# Altium schematic symbol library Logturtle_Power_Transmitter.SchLib: 24 symbols
Pins are listed as number, name and electrical type; pins without a type are passive.

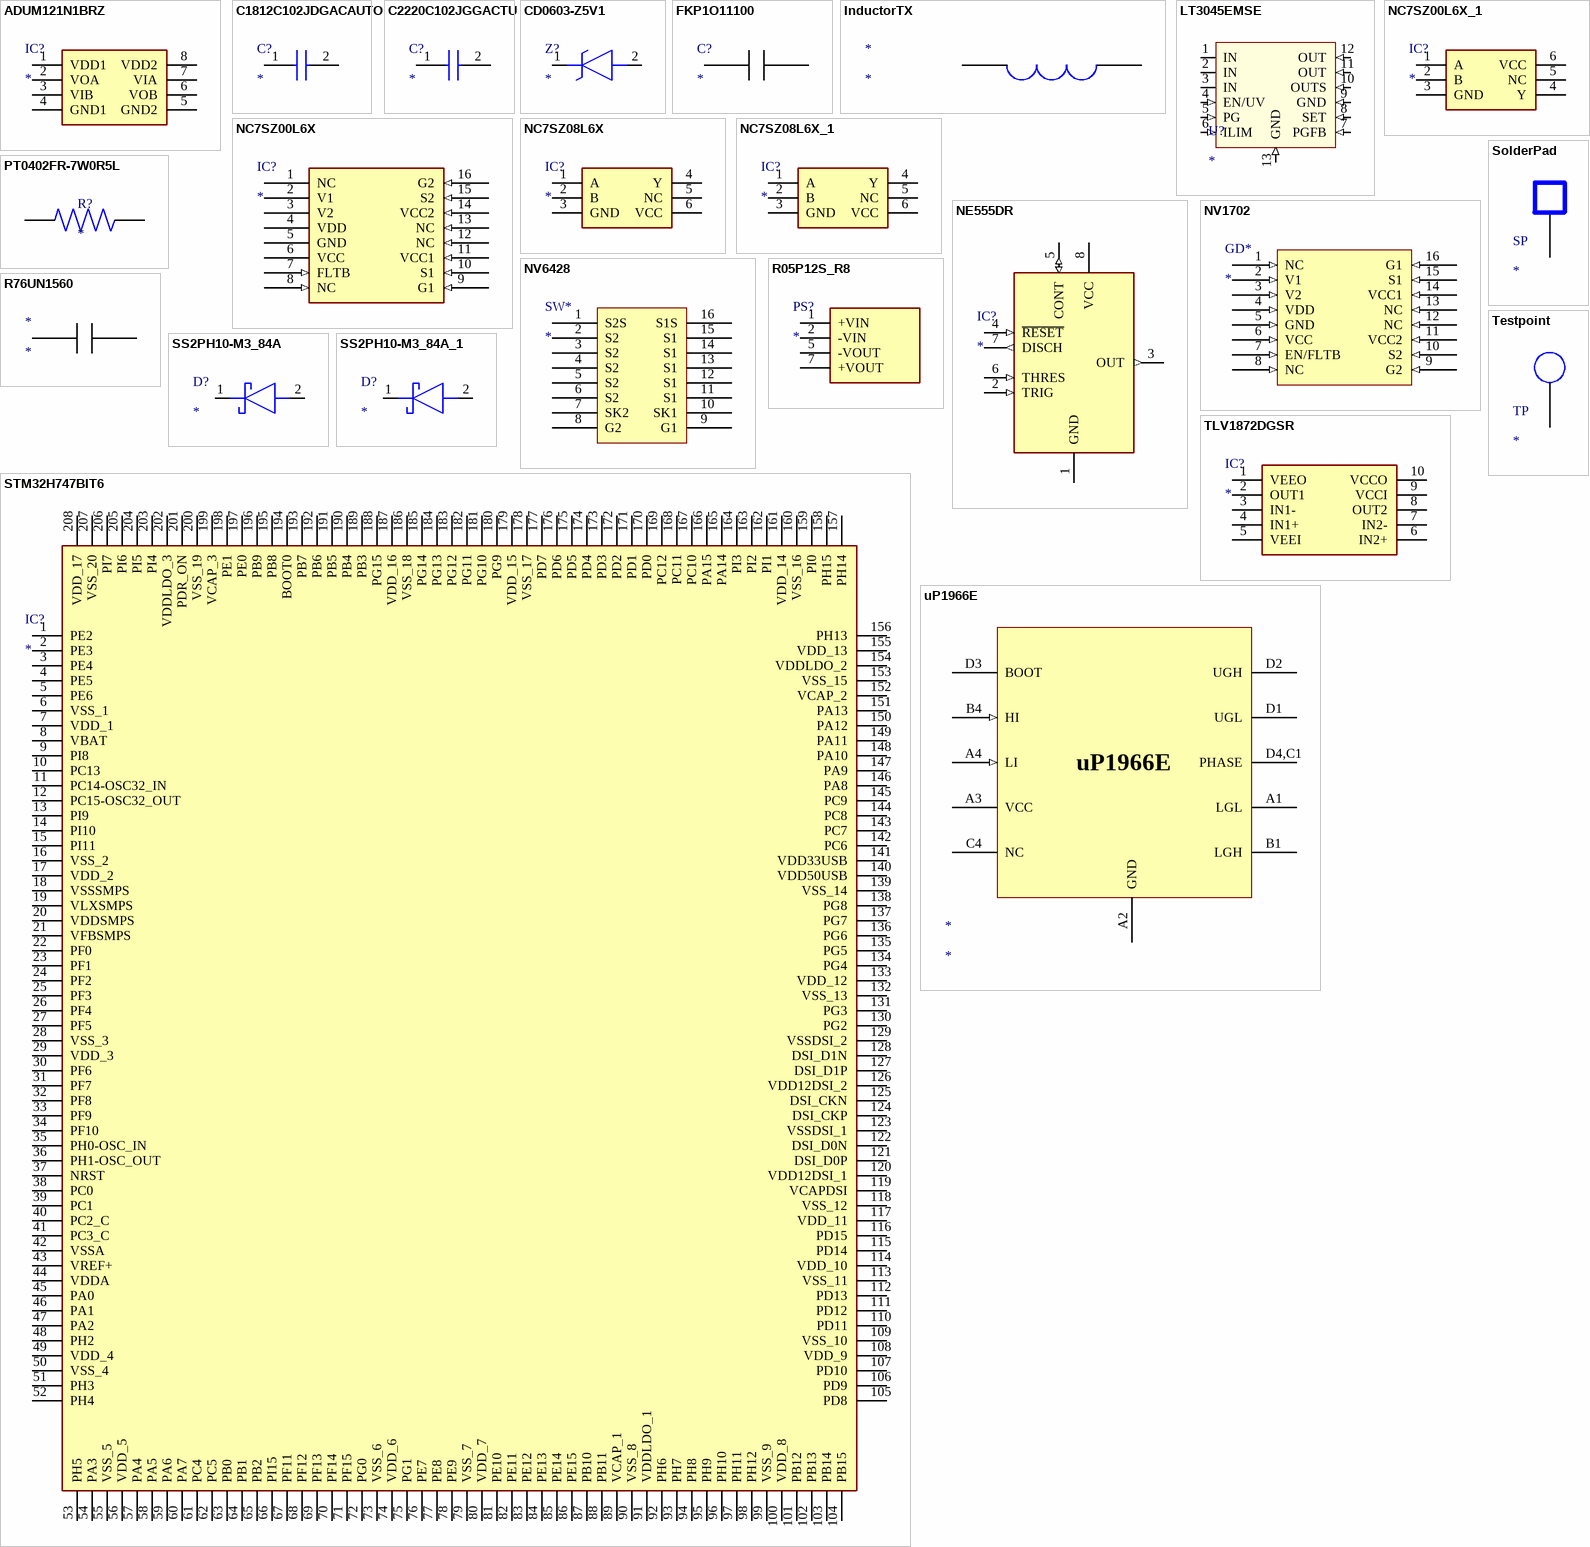
[diagram p0: symbols ADUM121N1BRZ to uP1966E]

## ADUM121N1BRZ
designator IC?
Integrated Circuit; Manufacturer_Name: Analog Devices; Manufacturer_Part_Number: ADUM121N1BRZ; Datasheet Link: http://www.analog.com/media/en/technical-documentation/data-sheets/ADuM120N_121N.pdf; Height: 1.75mm; Mouser Part Number: 584-ADUM121N1BRZ; Mouser Price/Stock: https://www.mouser.co.uk/ProductDetail/Analog-Devices/ADUM121N1BRZ?qs=lrf6x%2Foh5fBVNc%2Fo3CLfcQ%3D%3D; Arrow Part Number: ADUM121N1BRZ; Arrow Price/Stock: https://www.arrow.com/en/products/adum121n1brz/analog-devices?utm_currency=USD&region=nac
footprint SOIC127P600X175-8N
pins: 1 VDD1, 2 VOA, 3 VIB, 4 GND1, 5 GND2, 6 VOB, 7 VIA, 8 VDD2

## C1812C102JDGACAUTO
designator C?
Capacitor; Manufacturer_Name: YAGEO; Manufacturer_Part_Number: C1812C102JDGACAUTO; Datasheet Link: https://content.kemet.com/datasheets/KEM_C1080_C0G_HV_AUTO_SMD.pdf; Height: 1.55mm
footprint C1812
pins: 1, 2

## C2220C102JGGACTU
designator C?
Capacitor; Manufacturer_Name: KEMET; Manufacturer_Part_Number: C2220C102JGGACTU; Datasheet Link: https://content.kemet.com/datasheets/KEM_C1009_C0G_HV_SMD.pdf; Height: 2.2mm; Mouser Part Number: 80-C2220C102JGG; Mouser Price/Stock: https://www.mouser.co.uk/ProductDetail/KEMET/C2220C102JGGACTU?qs=w3%252Bcv6Flocq2o2tO%2FfUhTA%3D%3D; Arrow Part Number: C2220C102JGGACTU; Arrow Price/Stock: https://www.arrow.com/en/products/c2220c102jggactu/kemet-corporation?region=nac
footprint C2220
pins: 1, 2

## CD0603-Z5V1
designator Z?
Zener Diode; Manufacturer_Name: Bourns; Manufacturer_Part_Number: CD0603-Z5V1; Datasheet Link: https://media.digikey.com/pdf/Data%20Sheets/Bourns%20PDFs/D0603_1005-Z.pdf; Height: 0.85mm; Mouser Part Number: 652-CD0603-Z5V1; Mouser Price/Stock: https://www.mouser.com/Search/Refine.aspx?Keyword=652-CD0603-Z5V1
footprint DIOC1709X85N
pins: 1 K, 2 A

## FKP1O11100
designator C?
pins: 15, 16

## InductorTX
designator *
footprint InductorTerminals
pins: 12, + 13

## LT3045EMSE
designator U?
20V, 500mA, Ultralow Noise, Ultrahigh PSRR Linear Regulator  https://www.digikey.ie/en/products/detail/analog-devices-inc/LT3045EMSE-PBF/6234771
footprint TSOP65P490X110_HS-13N (TSOP, 12-Leads, Body 4.04x3.00mm, Pitch 0.65mm, Thermal Pad 2.95x1.76mm, IPC Medium Density)
pins: 1 IN, 2 IN, 3 IN, 4 EN/UV (in), 5 PG (in), 6 ILIM (in), 7 PGFB (in), 8 SET (in), 9 GND (in), 10 OUTS (in), 11 OUT (in), 12 OUT (in), 13 GND (in)

## NC7SZ00L6X
designator IC?
Integrated Circuit; Manufacturer_Name: onsemi; Manufacturer_Part_Number: NC7SZ00L6X; Datasheet Link: https://www.onsemi.com/pub/Collateral/NC7SZ00-D.PDF; Height: 0.55mm; Mouser Part Number: 512-NC7SZ00L6X; Mouser Price/Stock: https://www.mouser.co.uk/ProductDetail/ON-Semiconductor-Fairchild/NC7SZ00L6X/?qs=AFLC8Sm4xaWQG%252BOWUdD%2FRg%3D%3D; Arrow Part Number: NC7SZ00L6X; Arrow Price/Stock: https://www.arrow.com/en/products/nc7sz00l6x/on-semiconductor
footprint NC7SZ00L6X
footprint NC7SZ00L6X
pins: 1 NC, 2 V1, 3 V2, 4 VDD, 5 GND, 6 VCC, 7 FLTB (in), 8 NC (in), 9 G1 (in), 10 S1 (in), 11 VCC1 (in), 12 NC (in), 13 NC (in), 14 VCC2 (in), 15 S2 (in), 16 G2 (in)

## NC7SZ00L6X_1
designator IC?
Integrated Circuit; Manufacturer_Name: onsemi; Manufacturer_Part_Number: NC7SZ00L6X; Datasheet Link: https://www.onsemi.com/pub/Collateral/NC7SZ00-D.PDF; Height: 0.55mm; Mouser Part Number: 512-NC7SZ00L6X; Mouser Price/Stock: https://www.mouser.co.uk/ProductDetail/ON-Semiconductor-Fairchild/NC7SZ00L6X/?qs=AFLC8Sm4xaWQG%252BOWUdD%2FRg%3D%3D; Arrow Part Number: NC7SZ00L6X; Arrow Price/Stock: https://www.arrow.com/en/products/nc7sz00l6x/on-semiconductor
footprint NC7SZ00L6X
pins: 1 A, 2 B, 3 GND, 4 Y, 5 NC, 6 VCC

## NC7SZ08L6X
designator IC?
Integrated Circuit; Manufacturer_Name: onsemi; Manufacturer_Part_Number: NC7SZ08L6X; Datasheet Link: https://www.onsemi.com/pub/Collateral/NC7SZ08-D.PDF; Height: 0.55mm; Mouser Part Number: 512-NC7SZ08L6X; Mouser Price/Stock: https://www.mouser.co.uk/ProductDetail/onsemi-Fairchild/NC7SZ08L6X?qs=u2B728UsA6qfPyNlTO4c7w%3D%3D; Arrow Part Number: NC7SZ08L6X; Arrow Price/Stock: https://www.arrow.com/en/products/nc7sz08l6x/on-semiconductor
footprint NC7SZ08L6X
footprint NC7SZ08L6X
pins: 1 A, 2 B, 3 GND, 4 Y, 5 NC, 6 VCC

## NC7SZ08L6X_1
designator IC?
Integrated Circuit; Manufacturer_Name: onsemi; Manufacturer_Part_Number: NC7SZ08L6X; Datasheet Link: https://www.onsemi.com/pub/Collateral/NC7SZ08-D.PDF; Height: 0.55mm; Mouser Part Number: 512-NC7SZ08L6X; Mouser Price/Stock: https://www.mouser.co.uk/ProductDetail/onsemi-Fairchild/NC7SZ08L6X?qs=u2B728UsA6qfPyNlTO4c7w%3D%3D; Arrow Part Number: NC7SZ08L6X; Arrow Price/Stock: https://www.arrow.com/en/products/nc7sz08l6x/on-semiconductor
footprint NC7SZ08L6X
pins: 1 A, 2 B, 3 GND, 4 Y, 5 NC, 6 VCC

## NE555DR
designator IC?
Integrated Circuit; Manufacturer_Name: Texas Instruments; Manufacturer_Part_Number: NE555DR; Datasheet Link: http://www.ti.com/lit/ds/symlink/ne555.pdf; Height: 1.75mm; Mouser Part Number: 595-NE555DR; Mouser Price/Stock: https://www.mouser.com/Search/Refine.aspx?Keyword=595-NE555DR; RS Part Number: 1218414; RS Price/Stock: http://uk.rs-online.com/web/p/products/1218414
footprint SOIC127P600X175-8N
pins: 1 GND (power), 2 TRIG (in), 3 OUT (out), 4 ~{RESET} (in), 5 CONT (io), 6 THRES (in), 7 DISCH (out), 8 VCC (power)

## NV1702
designator GD*
Isolated gate driver for bidirectional switch / https://navitassemi.com/wp-content/plugins/gb-navitas-stock-checker/product_files/PDS-NV1702.pdf
pins: 1 NC (in), 2 V1 (in), 3 V2 (in), 4 VDD (in), 5 GND (in), 6 VCC (in), 7 EN/FLTB (in), 8 NC (in), 9 G2 (in), 10 S2 (in), 11 VCC2 (in), 12 NC (in), 13 NC (in), 14 VCC1 (in), 15 S1 (in), 16 G1 (in)

## NV6428
designator SW*
Navitas bidirection GaN switch / https://navitassemi.com/wp-content/plugins/gb-navitas-stock-checker/product_files/NV6428_70mO%20Max_Bi-Directional%20GaNFast_TOLT.pdf
footprint NV6428
pins: 1 S2S, 2 S2, 3 S2, 4 S2, 5 S2, 6 S2, 7 SK2 (hiz), 8 G2 (hiz), 9 G1 (hiz), 10 SK1 (hiz), 11 S1, 12 S1, 13 S1, 14 S1, 15 S1, 16 S1S

## PT0402FR-7W0R5L
designator R?
500 mOhms Â±1% 0.125W, 1/8W Chip Resistor 0402 (1005 Metric) Automotive AEC-Q200, Current Sense, Moisture Resistant Thick Film; MF: Yageo; MP: PT0402FR-7W0R5L; Price: None; Value: *; Check_prices: https://www.snapeda.com/parts/PT0402FR-7W0R5L/Yageo/view-part/1010867/?ref=eda; Package: 1005 Yageo; SnapEDA_Link: https://www.snapeda.com/parts/PT0402FR-7W0R5L/Yageo/view-part/1010867/?ref=snap; Availability: Bad
footprint RESC1005X40N
pins: 1, 2

## R05P12S_R8
designator PS?
Power Supply; Manufacturer_Name: RECOM Power; Manufacturer_Part_Number: R05P12S/R8; Datasheet Link: https://www.mouser.de/datasheet/2/468/RxxPxx_R-1710046.pdf; Height: 13mm; Mouser Part Number: 919-R05P12SR8; Mouser Price/Stock: https://www.mouser.co.uk/ProductDetail/RECOM-Power/R05P12S-R8?qs=%252BHKxvJ84kqo5EQ%2FKTjgTzw%3D%3D
footprint R05P12SR8
pins: 1 +VIN, 2 -VIN, 5 -VOUT, 7 +VOUT

## R76UN1560
designator *
footprint R76UN1560
pins: 15, 16

## SolderPad
designator SP
pins: ?1

## SS2PH10-M3_84A
designator D?
Schottky Diode; Manufacturer_Name: Vishay; Manufacturer_Part_Number: SS2PH10-M3/84A; Datasheet Link: https://www.vishay.com/docs/84682/ss2ph9.pdf; Mouser Part Number: 625-SS2PH10-M3; Mouser Price/Stock: https://www.mouser.co.uk/ProductDetail/Vishay-General-Semiconductor/SS2PH10-M3-84A?qs=2u8eEi%2F8yFWdOPY7KNSV1w%3D%3D; Arrow Part Number: SS2PH10-M3/84A; Arrow Price/Stock: https://www.arrow.com/en/products/ss2ph10-m384a/vishay?utm_currency=USD&region=nac
footprint DO-220AA
pins: 1 K, 2 A

## SS2PH10-M3_84A_1
designator D?
Schottky Diode; Manufacturer_Name: Vishay; Manufacturer_Part_Number: SS2PH10-M3/84A; Datasheet Link: https://www.vishay.com/docs/84682/ss2ph9.pdf; Mouser Part Number: 625-SS2PH10-M3; Mouser Price/Stock: https://www.mouser.co.uk/ProductDetail/Vishay-General-Semiconductor/SS2PH10-M3-84A?qs=2u8eEi%2F8yFWdOPY7KNSV1w%3D%3D; Arrow Part Number: SS2PH10-M3/84A; Arrow Price/Stock: https://www.arrow.com/en/products/ss2ph10-m384a/vishay?utm_currency=USD&region=nac
footprint DO-220AA
pins: 1 K, 2 A

## STM32H747BIT6
designator IC?
Integrated Circuit; Manufacturer_Name: STMicroelectronics; Manufacturer_Part_Number: STM32H747BIT6; Datasheet Link: https://www.st.com/resource/en/datasheet/stm32h747ag.pdf; Height: 1.6mm; Mouser Part Number: 511-STM32H747BIT6; Mouser Price/Stock: https://www.mouser.co.uk/ProductDetail/STMicroelectronics/STM32H747BIT6?qs=vLWxofP3U2wScK44YDio2w%3D%3D; Arrow Part Number: STM32H747BIT6; Arrow Price/Stock: https://www.arrow.com/en/products/stm32h747bit6/stmicroelectronics?utm_currency=USD&region=nac
footprint QFP50P3000X3000X160-208N
pins: 1 PE2, 2 PE3, 3 PE4, 4 PE5, 5 PE6, 6 VSS_1, 7 VDD_1, 8 VBAT, 9 PI8, 10 PC13, 11 PC14-OSC32_IN, 12 PC15-OSC32_OUT, 13 PI9, 14 PI10, 15 PI11, 16 VSS_2, 17 VDD_2, 18 VSSSMPS, 19 VLXSMPS, 20 VDDSMPS, 21 VFBSMPS, 22 PF0, 23 PF1, 24 PF2, 25 PF3, 26 PF4, 27 PF5, 28 VSS_3, 29 VDD_3, 30 PF6, 31 PF7, 32 PF8, 33 PF9, 34 PF10, 35 PH0-OSC_IN, 36 PH1-OSC_OUT, 37 NRST, 38 PC0, 39 PC1, 40 PC2_C, 41 PC3_C, 42 VSSA, 43 VREF+, 44 VDDA, 45 PA0, 46 PA1, 47 PA2, 48 PH2, 49 VDD_4, 50 VSS_4, 51 PH3, 52 PH4, 53 PH5, 54 PA3, 55 VSS_5, 56 VDD_5, 57 PA4, 58 PA5, 59 PA6, 60 PA7, 61 PC4, 62 PC5, 63 PB0, 64 PB1, 65 PB2, 66 PI15, 67 PF11, 68 PF12, 69 PF13, 70 PF14, 71 PF15, 72 PG0, 73 VSS_6, 74 VDD_6, 75 PG1, 76 PE7, 77 PE8, 78 PE9, 79 VSS_7, 80 VDD_7, 81 PE10, 82 PE11, 83 PE12, 84 PE13, 85 PE14, 86 PE15, 87 PB10, 88 PB11, 89 VCAP_1, 90 VSS_8, 91 VDDLDO_1, 92 PH6, 93 PH7, 94 PH8, 95 PH9, 96 PH10, 97 PH11, 98 PH12, 99 VSS_9, 100 VDD_8, 101 PB12, 102 PB13, 103 PB14, 104 PB15, 105 PD8, 106 PD9, 107 PD10, 108 VDD_9, 109 VSS_10, 110 PD11, 111 PD12, 112 PD13, 113 VSS_11, 114 VDD_10, 115 PD14, 116 PD15, 117 VDD_11, 118 VSS_12, 119 VCAPDSI, 120 VDD12DSI_1, 121 DSI_D0P, 122 DSI_D0N, 123 VSSDSI_1, 124 DSI_CKP, 125 DSI_CKN, 126 VDD12DSI_2, 127 DSI_D1P, 128 DSI_D1N, 129 VSSDSI_2, 130 PG2, 131 PG3, 132 VSS_13, 133 VDD_12, 134 PG4, 135 PG5, 136 PG6, 137 PG7, 138 PG8, 139 VSS_14, 140 VDD50USB, 141 VDD33USB, 142 PC6, 143 PC7, 144 PC8, 145 PC9, 146 PA8, 147 PA9, 148 PA10, 149 PA11, 150 PA12, 151 PA13, 152 VCAP_2, 153 VSS_15, 154 VDDLDO_2, 155 VDD_13, 156 PH13, 157 PH14, 158 PH15, 159 PI0, 160 VSS_16, 161 VDD_14, 162 PI1, 163 PI2, 164 PI3, 165 PA14, 166 PA15, 167 PC10, 168 PC11, 169 PC12, 170 PD0, 171 PD1, 172 PD2, 173 PD3, 174 PD4, 175 PD5, 176 PD6, 177 PD7, 178 VSS_17, 179 VDD_15, 180 PG9, 181 PG10, 182 PG11, 183 PG12, 184 PG13, 185 PG14, 186 VSS_18, 187 VDD_16, 188 PG15, 189 PB3, 190 PB4, 191 PB5, 192 PB6, 193 PB7, 194 BOOT0, 195 PB8, 196 PB9, 197 PE0, 198 PE1, 199 VCAP_3, 200 VSS_19, 201 PDR_ON, 202 VDDLDO_3, 203 PI4, 204 PI5, 205 PI6, 206 PI7, 207 VSS_20, 208 VDD_17

## Testpoint
designator TP
footprint TP_5006
pins: ?1

## TLV1872DGSR
designator IC?
Integrated Circuit; Manufacturer_Name: Texas Instruments; Manufacturer_Part_Number: TLV1872DGSR; Datasheet Link: https://www.ti.com.cn/cn/lit/ds/symlink/tlv1872.pdf?ts=1725938037960&ref_url=https%253A%252F%252Fwww.ti.com.cn%252Fproduct%252Fcn%252FTLV1872; Height: 1.1mm; Mouser Part Number: 595-TLV1872DGSR; Mouser Price/Stock: https://www.mouser.co.uk/ProductDetail/Texas-Instruments/TLV1872DGSR?qs=ZcfC38r4PotGaIsZlTBhhw%3D%3D; Arrow Part Number: TLV1872DGSR; Arrow Price/Stock: https://www.arrow.com/en/products/tlv1872dgsr/texas-instruments?utm_currency=USD&region=nac
footprint SOP50P490X110-10N
pins: 1 VEEO, 2 OUT1, 3 IN1-, 4 IN1+, 5 VEEI, 6 IN2+, 7 IN2-, 8 OUT2, 9 VCCI, 10 VCCO

## uP1966E
designator *
pins: A1 LGL, A2 GND (power), A3 VCC (power), A4 LI (in), B1 LGH, B4 HI (in), C4 NC, D1 UGL, D2 UGH, D3 BOOT, D4,C1 PHASE